# Altium footprint library DIPSWITCH-2.PcbLib: 1 footprints
Each footprint in its own frame and in the unit in brackets; x right, y up, seen from the top. Pads: shape width x height; smd on the part's side, far side on the other; paste and mask are expansions set on the pad; w line width, h text height; cw(c..) or ccw(c..) is an arc to the next point about the centre after c.
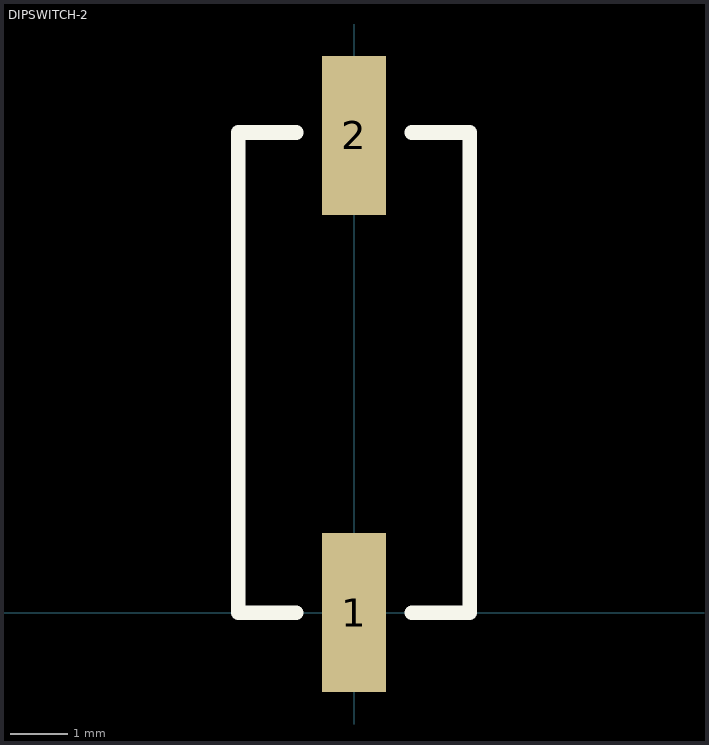
[diagram p0: the footprint, top view; thin cyan lines are the x and y axes]

## DIPSWITCH-2 [mm]
pads (2):
  rect 1.1x2.75 smd: 1(0,0) 2(0,8.25)
Top Overlay:
  lines w0.254: -2,8.25 -2,0 -1,0 ; -2,8.3 -1,8.3 ; 1,0 2,0 2,8.25 ; 1,8.3 2,8.3